# Altium integrated library TI_Logic_Flip-Flop,Latch,Register.IntLib: 2598 symbols (part 89 of 122)
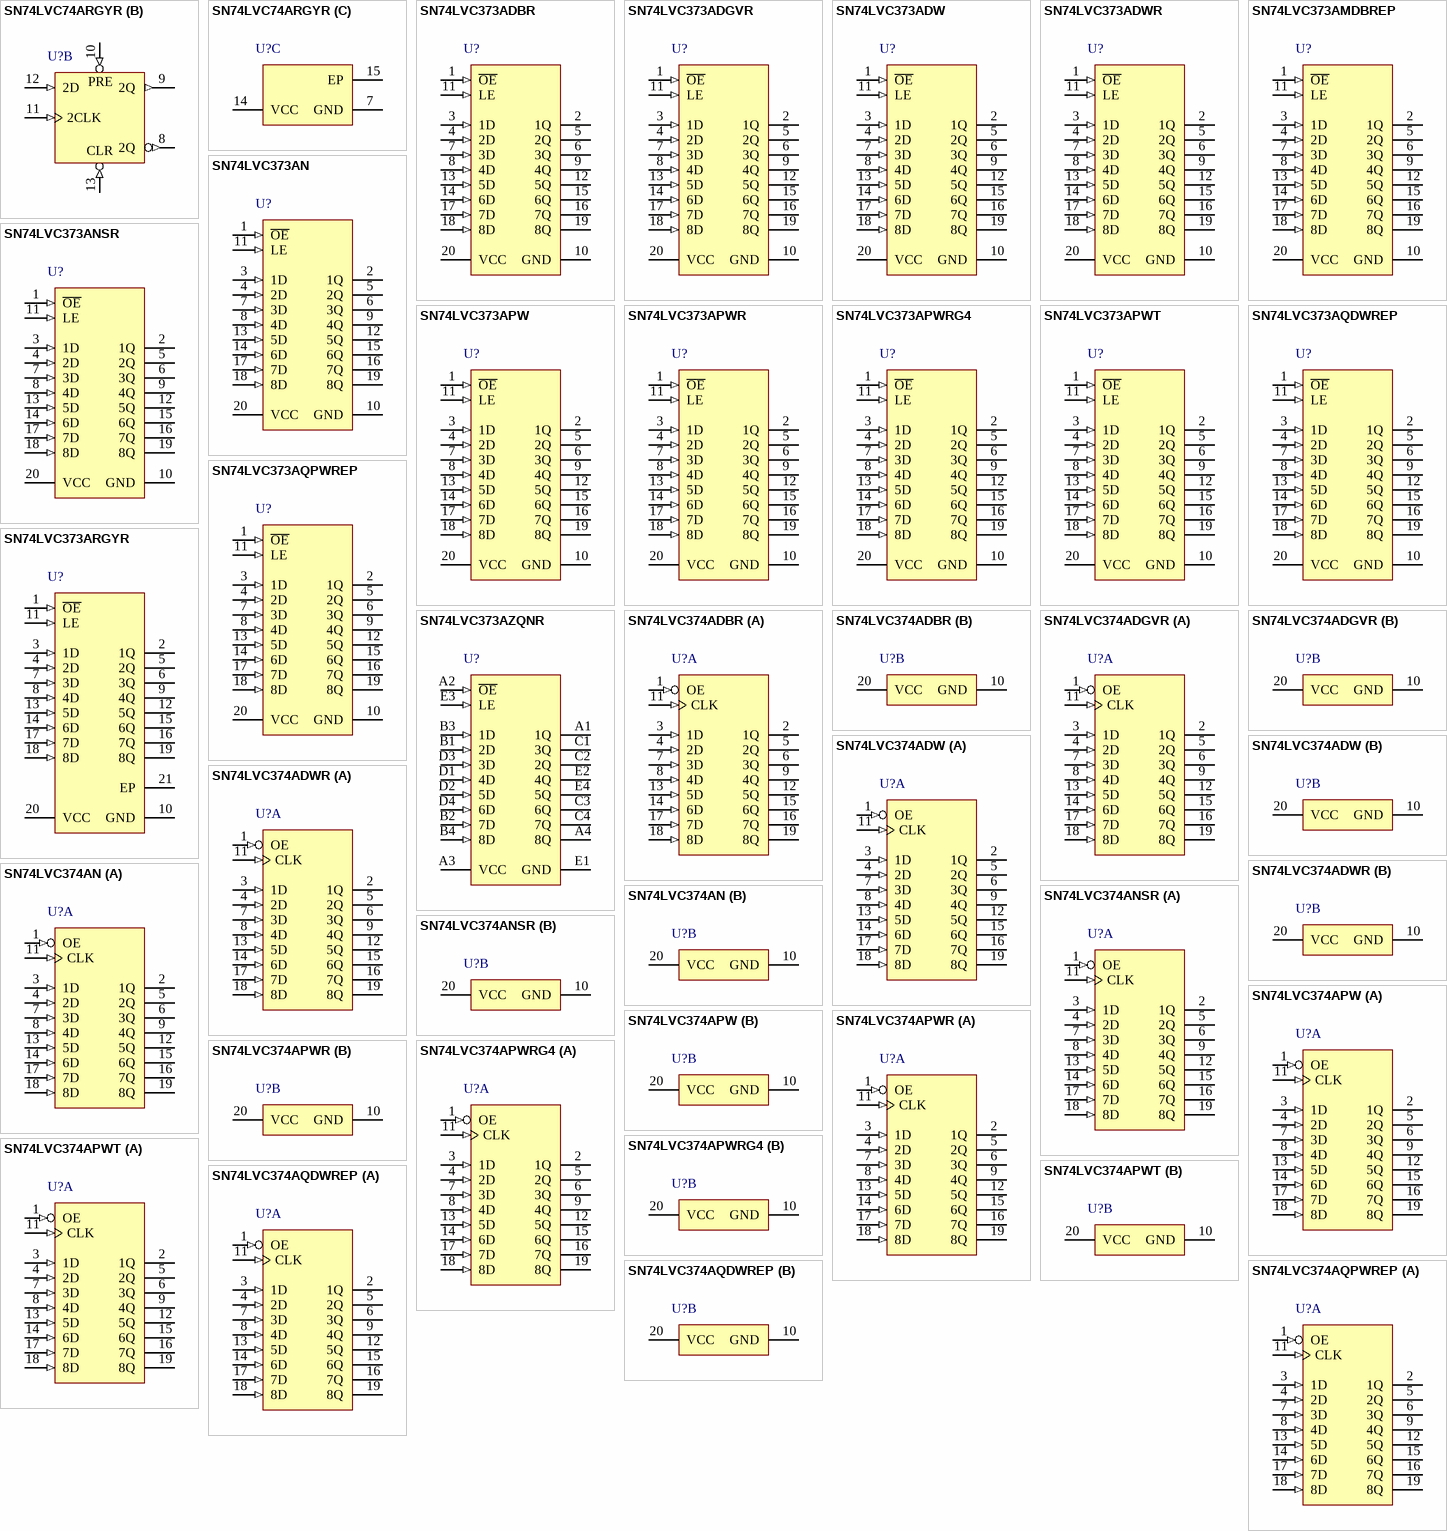
[diagram p227: symbols SN74LVC74ARGYR to SN74LVC374AQPWREP]

## SN74LVC374ANSR
designator U?
Octal Edge-Triggered D-Type Flip-Flops With 3-State Outputs, NS0020A, LARGE T&R; Generic Part Number: SN74LVC374A; Manufacturer: Texas Instruments; PartNumber: SN74LVC374ANSR; VCC(Min)(V): 1.65; VCC(Max)(V): 3.6; Output Type: CMOS; ICC @ Nom Voltage(Max)(mA): 0.01; Input Type: TTL,CMOS; Bits(#): 8; F @ Nom Voltage(Max)(Mhz): 100; Rating: Catalog; Technology Family: LVC; Voltage(Nom)(V): 1.8,2.5,2.7,3.3; Schmitt Trigger: No; Output Drive (IOL/IOH)(Max)(mA): 24/-24; Output Logic: Non-inverted; 3-State Output: Yes; tpd @ Nom Voltage(Max)(ns): 21.9,10.8,8.1,7; DatasheetVersion: SCAS296O; PackageReference: NS0020A; Supplier 1: Digi-Key; Supplier Part Number 1: 296-31916-2-ND; Supplier 2: Digi-Key; Supplier Part Number 2: 296-31916-1-ND; Supplier 3: Digi-Key; Supplier Part Number 3: 296-31916-6-ND; Supplier 4: Farnell; Supplier Part Number 4: 1236388; Supplier 5: Farnell; Supplier Part Number 5: 1236388RL; Supplier 6: Mouser; Supplier Part Number 6: 595-SN74LVC374ANSR; Operating Temperature Range(C): -40 to 85; ComponentLink1Description: Manufacturer URL; ComponentLink1URL: http://www.ti.com/; ComponentLink2Description: Datasheet; ComponentLink2URL: http://www.ti.com/lit/ds/symlink/sn74lvc374a.pdf; ComponentLink3Description: Package Specification; ComponentLink3URL: http://www.ti.com/lit/ml/msop002a/msop002a.pdf
footprint NS0020A_N (SOIC,20-Leads,Body 12.9x5.6mm,Pitch 1.27mm,IPC Medium Density)
footprint NS0020A_M (SOIC,20-Leads,Body 12.9x5.6mm,Pitch 1.27mm,IPC Low Density)
footprint NS0020A_L (SOIC,20-Leads,Body 12.9x5.6mm,Pitch 1.27mm,IPC High Density)
part A pins: 1 OE (in), 2 1Q (hiz), 3 1D (in), 4 2D (in), 5 2Q (hiz), 6 3Q (hiz), 7 3D (in), 8 4D (in), 9 4Q (hiz), 11 CLK (in), 12 5Q (hiz), 13 5D (in), 14 6D (in), 15 6Q (hiz), 16 7Q (hiz), 17 7D (in), 18 8D (in), 19 8Q (hiz)
part B pins: 10 GND (power), 20 VCC (power)

## SN74LVC374APW
designator U?
Octal Edge-Triggered D-Type Flip-Flops With 3-State Outputs, PW0020A, TUBE; Generic Part Number: SN74LVC374A; Manufacturer: Texas Instruments; PartNumber: SN74LVC374APW; VCC(Min)(V): 1.65; VCC(Max)(V): 3.6; Output Type: CMOS; ICC @ Nom Voltage(Max)(mA): 0.01; Input Type: TTL,CMOS; Bits(#): 8; F @ Nom Voltage(Max)(Mhz): 100; Rating: Catalog; Technology Family: LVC; Voltage(Nom)(V): 1.8,2.5,2.7,3.3; Schmitt Trigger: No; Output Drive (IOL/IOH)(Max)(mA): 24/-24; Output Logic: Non-inverted; 3-State Output: Yes; tpd @ Nom Voltage(Max)(ns): 21.9,10.8,8.1,7; DatasheetVersion: SCAS296O; PackageReference: PW0020A; Supplier 1: Digi-Key; Supplier Part Number 1: 296-26627-5-ND; Supplier 2: Farnell; Supplier Part Number 2: 1236389; Supplier 3: Newark; Supplier Part Number 3: 02H5437; Operating Temperature Range(C): -40 to 85; Code_JEDEC: MO-153; ComponentLink1Description: Manufacturer URL; ComponentLink1URL: http://www.ti.com/; ComponentLink2Description: Datasheet; ComponentLink2URL: http://www.ti.com/lit/ds/symlink/sn74lvc374a.pdf; ComponentLink3Description: Package Specification; ComponentLink3URL: http://www.ti.com/lit/ml/mpds362/mpds362.pdf
footprint PW0020A_N (SOP, 20-Leads, Body 6.6x4.5mm, Pitch 0.65mm, IPC Medium Density)
footprint PW0020A_M (SOP, 20-Leads, Body 6.6x4.5mm, Pitch 0.65mm, IPC Low Density)
footprint PW0020A_L (SOP, 20-Leads, Body 6.6x4.5mm, Pitch 0.65mm, IPC High Density)
part A pins: 1 OE (in), 2 1Q (hiz), 3 1D (in), 4 2D (in), 5 2Q (hiz), 6 3Q (hiz), 7 3D (in), 8 4D (in), 9 4Q (hiz), 11 CLK (in), 12 5Q (hiz), 13 5D (in), 14 6D (in), 15 6Q (hiz), 16 7Q (hiz), 17 7D (in), 18 8D (in), 19 8Q (hiz)
part B pins: 10 GND (power), 20 VCC (power)

## SN74LVC374APWR
designator U?
Octal Edge-Triggered D-Type Flip-Flops With 3-State Outputs, PW0020A, LARGE T&R; Generic Part Number: SN74LVC374A; Manufacturer: Texas Instruments; PartNumber: SN74LVC374APWR; VCC(Min)(V): 1.65; VCC(Max)(V): 3.6; Output Type: CMOS; ICC @ Nom Voltage(Max)(mA): 0.01; Input Type: TTL,CMOS; Bits(#): 8; F @ Nom Voltage(Max)(Mhz): 100; Rating: Catalog; Technology Family: LVC; Voltage(Nom)(V): 1.8,2.5,2.7,3.3; Schmitt Trigger: No; Output Drive (IOL/IOH)(Max)(mA): 24/-24; Output Logic: Non-inverted; 3-State Output: Yes; tpd @ Nom Voltage(Max)(ns): 21.9,10.8,8.1,7; DatasheetVersion: SCAS296O; PackageReference: PW0020A; Supplier 1: Digi-Key; Supplier Part Number 1: 296-1238-2-ND; Supplier 2: Digi-Key; Supplier Part Number 2: 296-1238-1-ND; Supplier 3: Digi-Key; Supplier Part Number 3: 296-1238-6-ND; Supplier 4: Farnell; Supplier Part Number 4: 2437256; Supplier 5: Newark; Supplier Part Number 5: 94T5068; Supplier 6: Newark; Supplier Part Number 6: 76C4288; Supplier 7: Mouser; Supplier Part Number 7: 595-SN74LVC374APWR; Operating Temperature Range(C): -40 to 85; Code_JEDEC: MO-153; ComponentLink1Description: Manufacturer URL; ComponentLink1URL: http://www.ti.com/; ComponentLink2Description: Datasheet; ComponentLink2URL: http://www.ti.com/lit/ds/symlink/sn74lvc374a.pdf; ComponentLink3Description: Package Specification; ComponentLink3URL: http://www.ti.com/lit/ml/mpds362/mpds362.pdf
footprint PW0020A_N (SOP, 20-Leads, Body 6.6x4.5mm, Pitch 0.65mm, IPC Medium Density)
footprint PW0020A_M (SOP, 20-Leads, Body 6.6x4.5mm, Pitch 0.65mm, IPC Low Density)
footprint PW0020A_L (SOP, 20-Leads, Body 6.6x4.5mm, Pitch 0.65mm, IPC High Density)
part A pins: 1 OE (in), 2 1Q (hiz), 3 1D (in), 4 2D (in), 5 2Q (hiz), 6 3Q (hiz), 7 3D (in), 8 4D (in), 9 4Q (hiz), 11 CLK (in), 12 5Q (hiz), 13 5D (in), 14 6D (in), 15 6Q (hiz), 16 7Q (hiz), 17 7D (in), 18 8D (in), 19 8Q (hiz)
part B pins: 10 GND (power), 20 VCC (power)

## SN74LVC374APWRG4
designator U?
Octal Edge-Triggered D-Type Flip-Flops With 3-State Outputs, PW0020A, LARGE T&R; Generic Part Number: SN74LVC374A; Manufacturer: Texas Instruments; PartNumber: SN74LVC374APWRG4; VCC(Min)(V): 1.65; VCC(Max)(V): 3.6; Output Type: CMOS; ICC @ Nom Voltage(Max)(mA): 0.01; Input Type: TTL,CMOS; Bits(#): 8; F @ Nom Voltage(Max)(Mhz): 100; Rating: Catalog; Technology Family: LVC; Voltage(Nom)(V): 1.8,2.5,2.7,3.3; Schmitt Trigger: No; Output Drive (IOL/IOH)(Max)(mA): 24/-24; Output Logic: Non-inverted; 3-State Output: Yes; tpd @ Nom Voltage(Max)(ns): 21.9,10.8,8.1,7; DatasheetVersion: SCAS296O; PackageReference: PW0020A; Supplier 1: Digi-Key; Supplier Part Number 1: SN74LVC374APWRG4-ND; Supplier 2: Newark; Supplier Part Number 2: 40K9291; Supplier 3: Mouser; Supplier Part Number 3: 595-SN74LVC374APWRG4; Operating Temperature Range(C): -40 to 85; Code_JEDEC: MO-153; ComponentLink1Description: Manufacturer URL; ComponentLink1URL: http://www.ti.com/; ComponentLink2Description: Datasheet; ComponentLink2URL: http://www.ti.com/lit/ds/symlink/sn74lvc374a.pdf; ComponentLink3Description: Package Specification; ComponentLink3URL: http://www.ti.com/lit/ml/mpds362/mpds362.pdf
footprint PW0020A_N (SOP, 20-Leads, Body 6.6x4.5mm, Pitch 0.65mm, IPC Medium Density)
footprint PW0020A_M (SOP, 20-Leads, Body 6.6x4.5mm, Pitch 0.65mm, IPC Low Density)
footprint PW0020A_L (SOP, 20-Leads, Body 6.6x4.5mm, Pitch 0.65mm, IPC High Density)
part A pins: 1 OE (in), 2 1Q (hiz), 3 1D (in), 4 2D (in), 5 2Q (hiz), 6 3Q (hiz), 7 3D (in), 8 4D (in), 9 4Q (hiz), 11 CLK (in), 12 5Q (hiz), 13 5D (in), 14 6D (in), 15 6Q (hiz), 16 7Q (hiz), 17 7D (in), 18 8D (in), 19 8Q (hiz)
part B pins: 10 GND (power), 20 VCC (power)

## SN74LVC374APWT
designator U?
Octal Edge-Triggered D-Type Flip-Flops With 3-State Outputs, PW0020A, SMALL T&R; Generic Part Number: SN74LVC374A; Manufacturer: Texas Instruments; PartNumber: SN74LVC374APWT; VCC(Min)(V): 1.65; VCC(Max)(V): 3.6; Output Type: CMOS; ICC @ Nom Voltage(Max)(mA): 0.01; Input Type: TTL,CMOS; Bits(#): 8; F @ Nom Voltage(Max)(Mhz): 100; Rating: Catalog; Technology Family: LVC; Voltage(Nom)(V): 1.8,2.5,2.7,3.3; Schmitt Trigger: No; Output Drive (IOL/IOH)(Max)(mA): 24/-24; Output Logic: Non-inverted; 3-State Output: Yes; tpd @ Nom Voltage(Max)(ns): 21.9,10.8,8.1,7; DatasheetVersion: SCAS296O; PackageReference: PW0020A; Supplier 1: Digi-Key; Supplier Part Number 1: 296-28674-2-ND; Supplier 2: Digi-Key; Supplier Part Number 2: 296-28674-1-ND; Supplier 3: Digi-Key; Supplier Part Number 3: 296-28674-6-ND; Supplier 4: Farnell; Supplier Part Number 4: 1741132; Operating Temperature Range(C): -40 to 85; Code_JEDEC: MO-153; ComponentLink1Description: Manufacturer URL; ComponentLink1URL: http://www.ti.com/; ComponentLink2Description: Datasheet; ComponentLink2URL: http://www.ti.com/lit/ds/symlink/sn74lvc374a.pdf; ComponentLink3Description: Package Specification; ComponentLink3URL: http://www.ti.com/lit/ml/mpds362/mpds362.pdf
footprint PW0020A_N (SOP, 20-Leads, Body 6.6x4.5mm, Pitch 0.65mm, IPC Medium Density)
footprint PW0020A_M (SOP, 20-Leads, Body 6.6x4.5mm, Pitch 0.65mm, IPC Low Density)
footprint PW0020A_L (SOP, 20-Leads, Body 6.6x4.5mm, Pitch 0.65mm, IPC High Density)
part A pins: 1 OE (in), 2 1Q (hiz), 3 1D (in), 4 2D (in), 5 2Q (hiz), 6 3Q (hiz), 7 3D (in), 8 4D (in), 9 4Q (hiz), 11 CLK (in), 12 5Q (hiz), 13 5D (in), 14 6D (in), 15 6Q (hiz), 16 7Q (hiz), 17 7D (in), 18 8D (in), 19 8Q (hiz)
part B pins: 10 GND (power), 20 VCC (power)

## SN74LVC374AQDWREP
designator U?
Enhanced Product Octal Edge-Triggered D-Type Flip-Flops With 3-State Outputs, DW0020A, LARGE T&R; Generic Part Number: SN74LVC374A-EP; Manufacturer: Texas Instruments; PartNumber: SN74LVC374AQDWREP; VCC(Min)(V): 2; VCC(Max)(V): 3.6; Output Type: CMOS; ICC @ Nom Voltage(Max)(mA): 0.01; Input Type: TTL,CMOS; Bits(#): 8; F @ Nom Voltage(Max)(Mhz): 100; Rating: HiRel Enhanced Product; Technology Family: LVC; Voltage(Nom)(V): 2.7,3.3; Schmitt Trigger: No; Output Drive (IOL/IOH)(Max)(mA): 24/-24; Output Logic: Non-inverted; 3-State Output: Yes; tpd @ Nom Voltage(Max)(ns): 9.5,8.5; DatasheetVersion: SCAS746A; PackageReference: DW0020A; Supplier 1: Digi-Key; Supplier Part Number 1: 296-22367-2-ND; Supplier 2: Digi-Key; Supplier Part Number 2: 296-22367-1-ND; Supplier 3: Digi-Key; Supplier Part Number 3: 296-22367-6-ND; Supplier 4: Newark; Supplier Part Number 4: 46M0680; Operating Temperature Range(C): -40 to 125; Code_JEDEC: MS-013; ComponentLink1Description: Manufacturer URL; ComponentLink1URL: http://www.ti.com/; ComponentLink2Description: Datasheet; ComponentLink2URL: http://www.ti.com/lit/ds/symlink/sn74lvc374a-ep.pdf; ComponentLink3Description: Package Specification; ComponentLink3URL: http://www.ti.com/lit/ml/mpds173a/mpds173a.pdf
footprint DW0020A_N (SOIC, 20-Leads, Body 13x7.6mm, Pitch 1.27mm, IPC Medium Density)
footprint DW0020A_M (SOIC, 20-Leads, Body 13x7.6mm, Pitch 1.27mm, IPC Low Density)
footprint DW0020A_L (SOIC, 20-Leads, Body 13x7.6mm, Pitch 1.27mm, IPC High Density)
part A pins: 1 OE (in), 2 1Q (hiz), 3 1D (in), 4 2D (in), 5 2Q (hiz), 6 3Q (hiz), 7 3D (in), 8 4D (in), 9 4Q (hiz), 11 CLK (in), 12 5Q (hiz), 13 5D (in), 14 6D (in), 15 6Q (hiz), 16 7Q (hiz), 17 7D (in), 18 8D (in), 19 8Q (hiz)
part B pins: 10 GND (power), 20 VCC (power)

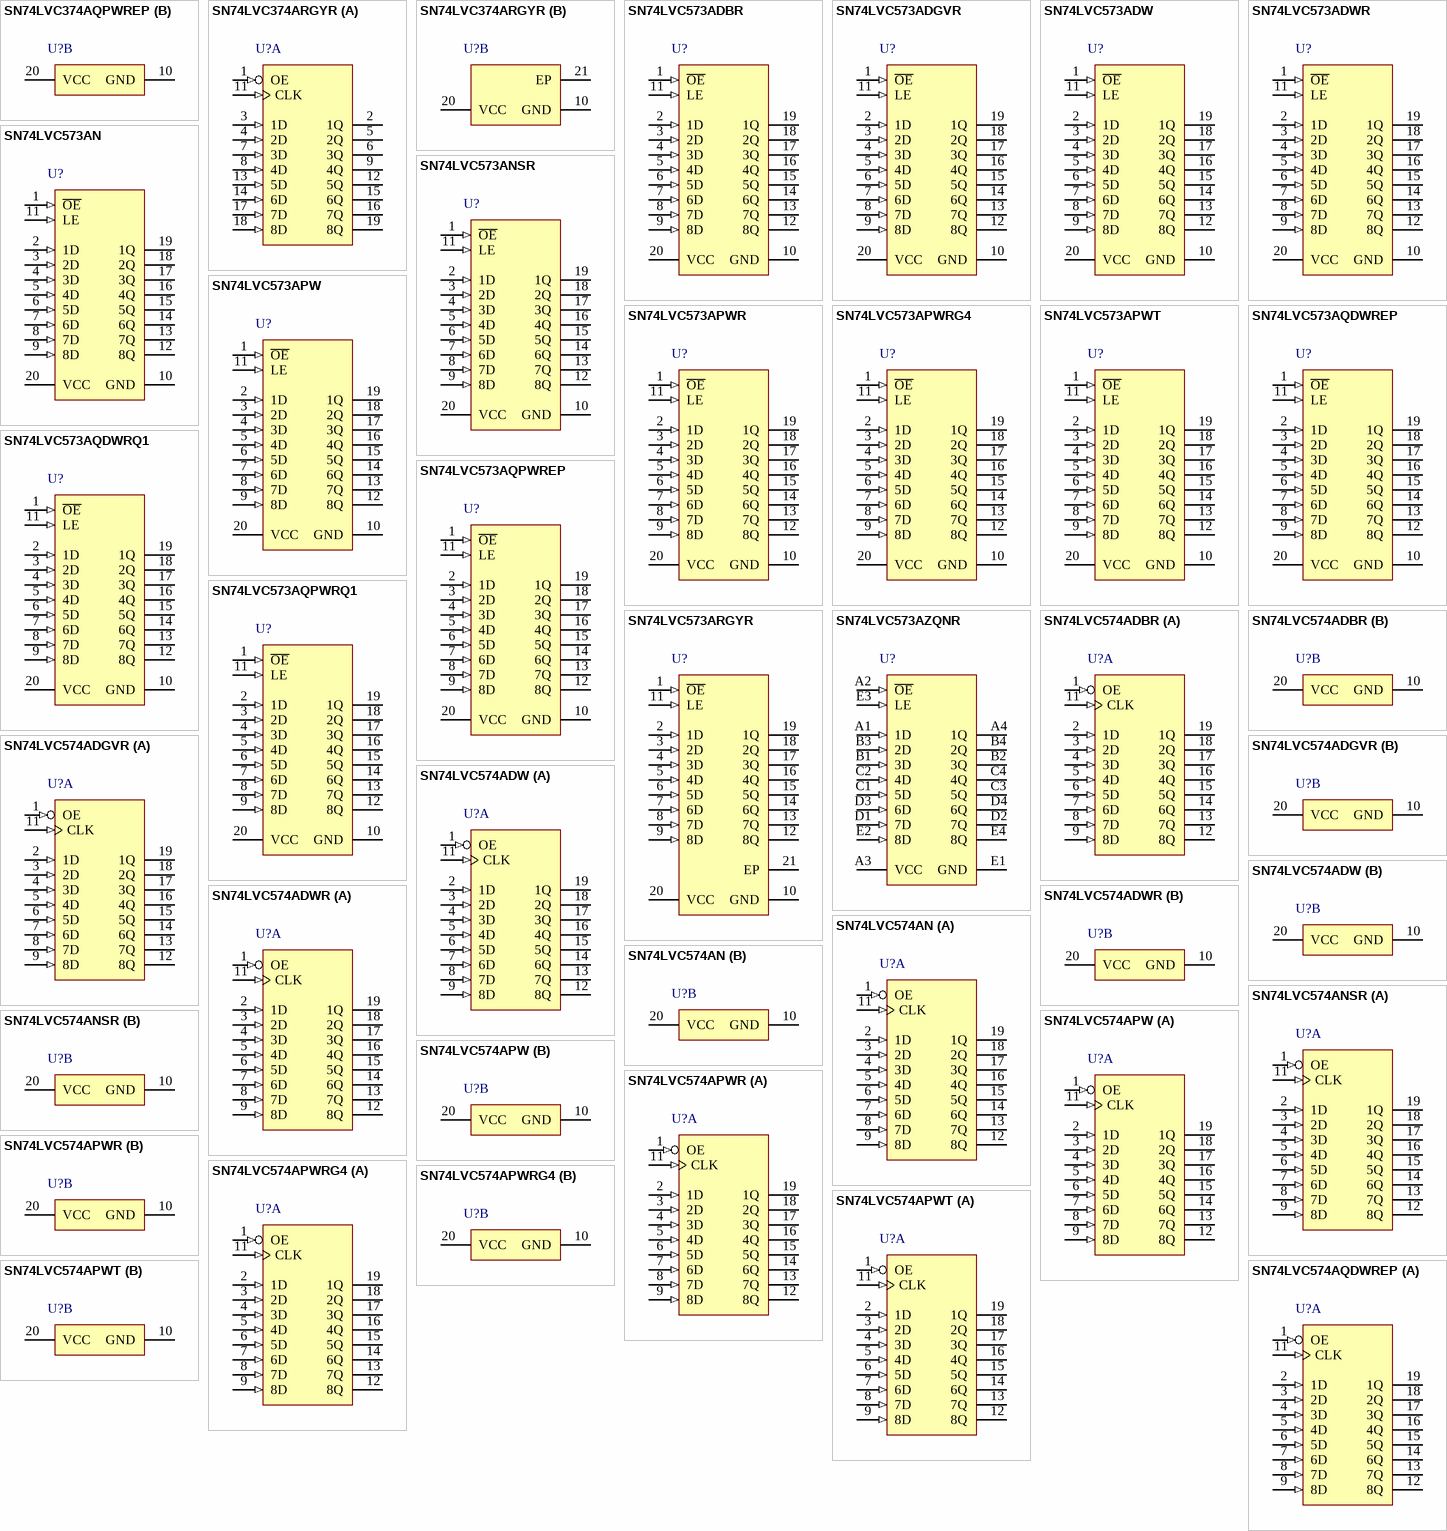
[diagram p105: symbols SN74LVC374AQPWREP to SN74LVC574AQDWREP]

## SN74LVC374AQPWREP
designator U?
Enhanced Product Octal Edge-Triggered D-Type Flip-Flops With 3-State Outputs, PW0020A, LARGE T&R; Generic Part Number: SN74LVC374A-EP; Manufacturer: Texas Instruments; PartNumber: SN74LVC374AQPWREP; VCC(Min)(V): 2; VCC(Max)(V): 3.6; Output Type: CMOS; ICC @ Nom Voltage(Max)(mA): 0.01; Input Type: TTL,CMOS; Bits(#): 8; F @ Nom Voltage(Max)(Mhz): 100; Rating: HiRel Enhanced Product; Technology Family: LVC; Voltage(Nom)(V): 2.7,3.3; Schmitt Trigger: No; Output Drive (IOL/IOH)(Max)(mA): 24/-24; Output Logic: Non-inverted; 3-State Output: Yes; tpd @ Nom Voltage(Max)(ns): 9.5,8.5; DatasheetVersion: SCAS746A; PackageReference: PW0020A; Supplier 1: Digi-Key; Supplier Part Number 1: 296-22368-2-ND; Supplier 2: Digi-Key; Supplier Part Number 2: 296-22368-1-ND; Supplier 3: Digi-Key; Supplier Part Number 3: 296-22368-6-ND; Operating Temperature Range(C): -40 to 125; Code_JEDEC: MO-153; ComponentLink1Description: Manufacturer URL; ComponentLink1URL: http://www.ti.com/; ComponentLink2Description: Datasheet; ComponentLink2URL: http://www.ti.com/lit/ds/symlink/sn74lvc374a-ep.pdf; ComponentLink3Description: Package Specification; ComponentLink3URL: http://www.ti.com/lit/ml/mpds362/mpds362.pdf
footprint PW0020A_N (SOP, 20-Leads, Body 6.6x4.5mm, Pitch 0.65mm, IPC Medium Density)
footprint PW0020A_M (SOP, 20-Leads, Body 6.6x4.5mm, Pitch 0.65mm, IPC Low Density)
footprint PW0020A_L (SOP, 20-Leads, Body 6.6x4.5mm, Pitch 0.65mm, IPC High Density)
part A pins: 1 OE (in), 2 1Q (hiz), 3 1D (in), 4 2D (in), 5 2Q (hiz), 6 3Q (hiz), 7 3D (in), 8 4D (in), 9 4Q (hiz), 11 CLK (in), 12 5Q (hiz), 13 5D (in), 14 6D (in), 15 6Q (hiz), 16 7Q (hiz), 17 7D (in), 18 8D (in), 19 8Q (hiz)
part B pins: 10 GND (power), 20 VCC (power)

## SN74LVC374ARGYR
designator U?
Octal Edge-Triggered D-Type Flip-Flops With 3-State Outputs, RGY0020A, LARGE T&R; Generic Part Number: SN74LVC374A; Manufacturer: Texas Instruments; PartNumber: SN74LVC374ARGYR; VCC(Min)(V): 1.65; VCC(Max)(V): 3.6; Output Type: CMOS; ICC @ Nom Voltage(Max)(mA): 0.01; Input Type: TTL,CMOS; Bits(#): 8; F @ Nom Voltage(Max)(Mhz): 100; Rating: Catalog; Technology Family: LVC; Voltage(Nom)(V): 1.8,2.5,2.7,3.3; Schmitt Trigger: No; Output Drive (IOL/IOH)(Max)(mA): 24/-24; Output Logic: Non-inverted; 3-State Output: Yes; tpd @ Nom Voltage(Max)(ns): 21.9,10.8,8.1,7; DatasheetVersion: SCAS296O; PackageReference: RGY0020A; Supplier 1: Digi-Key; Supplier Part Number 1: 296-14910-2-ND; Supplier 2: Digi-Key; Supplier Part Number 2: 296-14910-1-ND; Supplier 3: Digi-Key; Supplier Part Number 3: 296-14910-6-ND; Supplier 4: Newark; Supplier Part Number 4: 22H0417; Operating Temperature Range(C): -40 to 85; Code_JEDEC: MO-241; ComponentLink1Description: Manufacturer URL; ComponentLink1URL: http://www.ti.com/; ComponentLink2Description: Datasheet; ComponentLink2URL: http://www.ti.com/lit/ds/symlink/sn74lvc374a.pdf; ComponentLink3Description: Package Specification; ComponentLink3URL: http://www.ti.com/lit/ml/mpqf116g/mpqf116g.pdf
footprint RGY0020A_V (QFN, 20-Leads, Body 4.5x3.5mm, Thermal Pad 3.05x2.05mm, TI Recommend)
part A pins: 1 OE (in) "Enable pin", 2 1Q (hiz) "Output 1", 3 1D (in) "Input 1", 4 2D (in) "Input 2", 5 2Q (hiz) "Output 2", 6 3Q (hiz) "Output 3", 7 3D (in) "Input 3", 8 4D (in) "Input 4", 9 4Q (hiz) "Output 4", 11 CLK (in) "Clock pin", 12 5Q (hiz) "Output 5", 13 5D (in) "Input 5", 14 6D (in) "Input 6", 15 6Q (hiz) "Output 6", 16 7Q (hiz) "Output 7", 17 7D (in) "Input 7", 18 8D (in) "Input 8", 19 8Q (hiz) "Output 8"
part B pins: 10 GND (power) "Ground pin", 20 VCC (power) "Power pin", 21 EP

## SN74LVC573ADBR
designator U?
Octal Transparent D-Type Latches With 3-State Outputs, DB0020A, LARGE T&R; Generic Part Number: SN74LVC573A; Manufacturer: Texas Instruments; PartNumber: SN74LVC573ADBR; VCC(Min)(V): 1.65; VCC(Max)(V): 3.6; Output Type: CMOS; Logic: True; Static Current: 0.01; Input Type: CMOS,TTL; Bits(#): 8; F @ Nom Voltage(Max)(Mhz): 100; Rating: Catalog; Technology Family: LVC; Voltage(Nom)(V): 1.8,2.5,2.7,3.3; Schmitt Trigger: No; Output Drive (IOL/IOH)(Max)(mA): 24/-24; Output Logic: Non-inverted; 3-State Output: Yes; tpd @ Nom Voltage(Max)(ns): 19.1,9.6,7.7,6.9; DatasheetVersion: SCAS300S; PackageReference: DB0020A; Supplier 1: Digi-Key; Supplier Part Number 1: 296-8525-2-ND; Supplier 2: Digi-Key; Supplier Part Number 2: 296-8525-1-ND; Supplier 3: Digi-Key; Supplier Part Number 3: 296-8525-6-ND; Supplier 4: Farnell; Supplier Part Number 4: 2407134; Supplier 5: Farnell; Supplier Part Number 5: 2407134RL; Supplier 6: Newark; Supplier Part Number 6: 83X7772; Supplier 7: Newark; Supplier Part Number 7: 76C4306; Supplier 8: Mouser; Supplier Part Number 8: 595-SN74LVC573ADBR; ICC @ Nom Voltage(Max)(mA): 0.01; Operating Temperature Range(C): -40 to 125,-40 to 85; Code_JEDEC: MO-150; ComponentLink1Description: Manufacturer URL; ComponentLink1URL: http://www.ti.com/; ComponentLink2Description: Datasheet; ComponentLink2URL: http://www.ti.com/lit/ds/symlink/sn74lvc573a.pdf; ComponentLink3Description: Package Specification; ComponentLink3URL: http://www.ti.com/lit/ml/mpds508/mpds508.pdf
footprint DB0020A_N (SOP, 20-Leads, Body 5.6x7.5mm, Pitch 0.65mm, IPC Medium Density)
footprint DB0020A_M (SOP, 20-Leads, Body 5.6x7.5mm, Pitch 0.65mm, IPC Low Density)
footprint DB0020A_L (SOP, 20-Leads, Body 5.6x7.5mm, Pitch 0.65mm, IPC High Density)
pins: 1 ~{OE} (in), 2 1D (in), 3 2D (in), 4 3D (in), 5 4D (in), 6 5D (in), 7 6D (in), 8 7D (in), 9 8D (in), 10 GND (power), 11 LE (in), 12 8Q (hiz), 13 7Q (hiz), 14 6Q (hiz), 15 5Q (hiz), 16 4Q (hiz), 17 3Q (hiz), 18 2Q (hiz), 19 1Q (hiz), 20 VCC (power)

## SN74LVC573ADGVR
designator U?
Octal Transparent D-Type Latches With 3-State Outputs, DGV0020A, LARGE T&R; Generic Part Number: SN74LVC573A; Manufacturer: Texas Instruments; PartNumber: SN74LVC573ADGVR; VCC(Min)(V): 1.65; VCC(Max)(V): 3.6; Output Type: CMOS; Logic: True; Static Current: 0.01; Input Type: CMOS,TTL; Bits(#): 8; F @ Nom Voltage(Max)(Mhz): 100; Rating: Catalog; Technology Family: LVC; Voltage(Nom)(V): 1.8,2.5,2.7,3.3; Schmitt Trigger: No; Output Drive (IOL/IOH)(Max)(mA): 24/-24; Output Logic: Non-inverted; 3-State Output: Yes; tpd @ Nom Voltage(Max)(ns): 19.1,9.6,7.7,6.9; DatasheetVersion: SCAS300S; PackageReference: DGV0020A; Supplier 1: Digi-Key; Supplier Part Number 1: 296-8526-2-ND; Supplier 2: Digi-Key; Supplier Part Number 2: 296-8526-1-ND; Supplier 3: Digi-Key; Supplier Part Number 3: 296-8526-6-ND; Supplier 4: Farnell; Supplier Part Number 4: 1236396; Supplier 5: Farnell; Supplier Part Number 5: 1236396RL; Supplier 6: Mouser; Supplier Part Number 6: 595-SN74LVC573ADGVR; ICC @ Nom Voltage(Max)(mA): 0.01; Operating Temperature Range(C): -40 to 125,-40 to 85; Code_JEDEC: MO-194; ComponentLink1Description: Manufacturer URL; ComponentLink1URL: http://www.ti.com/; ComponentLink2Description: Datasheet; ComponentLink2URL: http://www.ti.com/lit/ds/symlink/sn74lvc573a.pdf; ComponentLink3Description: Package Specification; ComponentLink3URL: http://www.ti.com/lit/ml/mpds006c/mpds006c.pdf
footprint DGV0020A_N (SOP, 20-Leads, Body 4.5x5.1mm, Pitch 0.4mm, IPC Medium Density)
footprint DGV0020A_M (SOP, 20-Leads, Body 4.5x5.1mm, Pitch 0.4mm, IPC Low Density)
footprint DGV0020A_L (SOP, 20-Leads, Body 4.5x5.1mm, Pitch 0.4mm, IPC High Density)
pins: 1 ~{OE} (in), 2 1D (in), 3 2D (in), 4 3D (in), 5 4D (in), 6 5D (in), 7 6D (in), 8 7D (in), 9 8D (in), 10 GND (power), 11 LE (in), 12 8Q (hiz), 13 7Q (hiz), 14 6Q (hiz), 15 5Q (hiz), 16 4Q (hiz), 17 3Q (hiz), 18 2Q (hiz), 19 1Q (hiz), 20 VCC (power)

## SN74LVC573ADW
designator U?
Octal Transparent D-Type Latches With 3-State Outputs, DW0020A, TUBE; Generic Part Number: SN74LVC573A; Manufacturer: Texas Instruments; PartNumber: SN74LVC573ADW; VCC(Min)(V): 1.65; VCC(Max)(V): 3.6; Output Type: CMOS; Logic: True; Static Current: 0.01; Input Type: CMOS,TTL; Bits(#): 8; F @ Nom Voltage(Max)(Mhz): 100; Rating: Catalog; Technology Family: LVC; Voltage(Nom)(V): 1.8,2.5,2.7,3.3; Schmitt Trigger: No; Output Drive (IOL/IOH)(Max)(mA): 24/-24; Output Logic: Non-inverted; 3-State Output: Yes; tpd @ Nom Voltage(Max)(ns): 19.1,9.6,7.7,6.9; DatasheetVersion: SCAS300S; PackageReference: DW0020A; Supplier 1: Digi-Key; Supplier Part Number 1: 296-8527-5-ND; Supplier 2: Farnell; Supplier Part Number 2: 1236397; Supplier 3: Newark; Supplier Part Number 3: 35K0822; Supplier 4: Mouser; Supplier Part Number 4: 595-SN74LVC573ADW; ICC @ Nom Voltage(Max)(mA): 0.01; Operating Temperature Range(C): -40 to 125,-40 to 85; Code_JEDEC: MS-013; ComponentLink1Description: Manufacturer URL; ComponentLink1URL: http://www.ti.com/; ComponentLink2Description: Datasheet; ComponentLink2URL: http://www.ti.com/lit/ds/symlink/sn74lvc573a.pdf; ComponentLink3Description: Package Specification; ComponentLink3URL: http://www.ti.com/lit/ml/mpds173a/mpds173a.pdf
footprint DW0020A_N (SOIC, 20-Leads, Body 13x7.6mm, Pitch 1.27mm, IPC Medium Density)
footprint DW0020A_M (SOIC, 20-Leads, Body 13x7.6mm, Pitch 1.27mm, IPC Low Density)
footprint DW0020A_L (SOIC, 20-Leads, Body 13x7.6mm, Pitch 1.27mm, IPC High Density)
pins: 1 ~{OE} (in), 2 1D (in), 3 2D (in), 4 3D (in), 5 4D (in), 6 5D (in), 7 6D (in), 8 7D (in), 9 8D (in), 10 GND (power), 11 LE (in), 12 8Q (hiz), 13 7Q (hiz), 14 6Q (hiz), 15 5Q (hiz), 16 4Q (hiz), 17 3Q (hiz), 18 2Q (hiz), 19 1Q (hiz), 20 VCC (power)

## SN74LVC573ADWR
designator U?
Octal Transparent D-Type Latches With 3-State Outputs, DW0020A, LARGE T&R; Generic Part Number: SN74LVC573A; Manufacturer: Texas Instruments; PartNumber: SN74LVC573ADWR; VCC(Min)(V): 1.65; VCC(Max)(V): 3.6; Output Type: CMOS; Logic: True; Static Current: 0.01; Input Type: CMOS,TTL; Bits(#): 8; F @ Nom Voltage(Max)(Mhz): 100; Rating: Catalog; Technology Family: LVC; Voltage(Nom)(V): 1.8,2.5,2.7,3.3; Schmitt Trigger: No; Output Drive (IOL/IOH)(Max)(mA): 24/-24; Output Logic: Non-inverted; 3-State Output: Yes; tpd @ Nom Voltage(Max)(ns): 19.1,9.6,7.7,6.9; DatasheetVersion: SCAS300S; PackageReference: DW0020A; Supplier 1: Digi-Key; Supplier Part Number 1: 296-14913-2-ND; Supplier 2: Digi-Key; Supplier Part Number 2: 296-14913-1-ND; Supplier 3: Digi-Key; Supplier Part Number 3: 296-14913-6-ND; Supplier 4: Newark; Supplier Part Number 4: 76C4309; Supplier 5: Mouser; Supplier Part Number 5: 595-SN74LVC573ADWR; ICC @ Nom Voltage(Max)(mA): 0.01; Operating Temperature Range(C): -40 to 125,-40 to 85; Code_JEDEC: MS-013; ComponentLink1Description: Manufacturer URL; ComponentLink1URL: http://www.ti.com/; ComponentLink2Description: Datasheet; ComponentLink2URL: http://www.ti.com/lit/ds/symlink/sn74lvc573a.pdf; ComponentLink3Description: Package Specification; ComponentLink3URL: http://www.ti.com/lit/ml/mpds173a/mpds173a.pdf
footprint DW0020A_N (SOIC, 20-Leads, Body 13x7.6mm, Pitch 1.27mm, IPC Medium Density)
footprint DW0020A_M (SOIC, 20-Leads, Body 13x7.6mm, Pitch 1.27mm, IPC Low Density)
footprint DW0020A_L (SOIC, 20-Leads, Body 13x7.6mm, Pitch 1.27mm, IPC High Density)
pins: 1 ~{OE} (in), 2 1D (in), 3 2D (in), 4 3D (in), 5 4D (in), 6 5D (in), 7 6D (in), 8 7D (in), 9 8D (in), 10 GND (power), 11 LE (in), 12 8Q (hiz), 13 7Q (hiz), 14 6Q (hiz), 15 5Q (hiz), 16 4Q (hiz), 17 3Q (hiz), 18 2Q (hiz), 19 1Q (hiz), 20 VCC (power)

## SN74LVC573AN
designator U?
Octal Transparent D-Type Latches With 3-State Outputs, N0020A, TUBE; Generic Part Number: SN74LVC573A; Manufacturer: Texas Instruments; PartNumber: SN74LVC573AN; VCC(Min)(V): 1.65; VCC(Max)(V): 3.6; Output Type: CMOS; Logic: True; Static Current: 0.01; Input Type: CMOS,TTL; Bits(#): 8; F @ Nom Voltage(Max)(Mhz): 100; Rating: Catalog; Technology Family: LVC; Voltage(Nom)(V): 1.8,2.5,2.7,3.3; Schmitt Trigger: No; Output Drive (IOL/IOH)(Max)(mA): 24/-24; Output Logic: Non-inverted; 3-State Output: Yes; tpd @ Nom Voltage(Max)(ns): 19.1,9.6,7.7,6.9; DatasheetVersion: SCAS300S; PackageReference: N0020A; Supplier 1: Digi-Key; Supplier Part Number 1: 296-8528-5-ND; Supplier 2: Farnell; Supplier Part Number 2: 1750132; Supplier 3: Mouser; Supplier Part Number 3: 595-SN74LVC573AN; ICC @ Nom Voltage(Max)(mA): 0.01; Operating Temperature Range(C): -40 to 125,-40 to 85; Code_JEDEC: MS-001; ComponentLink1Description: Manufacturer URL; ComponentLink1URL: http://www.ti.com/; ComponentLink2Description: Datasheet; ComponentLink2URL: http://www.ti.com/lit/ds/symlink/sn74lvc573a.pdf; ComponentLink3Description: Package Specification; ComponentLink3URL: http://www.ti.com/lit/ml/mpdi002c/mpdi002c.pdf
footprint N0020A (DIP, 20-Leads, Body 26.9x6.6mm, Pitch 2.54mm)
pins: 1 ~{OE} (in), 2 1D (in), 3 2D (in), 4 3D (in), 5 4D (in), 6 5D (in), 7 6D (in), 8 7D (in), 9 8D (in), 10 GND (power), 11 LE (in), 12 8Q (hiz), 13 7Q (hiz), 14 6Q (hiz), 15 5Q (hiz), 16 4Q (hiz), 17 3Q (hiz), 18 2Q (hiz), 19 1Q (hiz), 20 VCC (power)

## SN74LVC573ANSR
designator U?
Octal Transparent D-Type Latches With 3-State Outputs, NS0020A, LARGE T&R; Generic Part Number: SN74LVC573A; Manufacturer: Texas Instruments; PartNumber: SN74LVC573ANSR; VCC(Min)(V): 1.65; VCC(Max)(V): 3.6; Output Type: CMOS; Logic: True; Static Current: 0.01; Input Type: CMOS,TTL; Bits(#): 8; F @ Nom Voltage(Max)(Mhz): 100; Rating: Catalog; Technology Family: LVC; Voltage(Nom)(V): 1.8,2.5,2.7,3.3; Schmitt Trigger: No; Output Drive (IOL/IOH)(Max)(mA): 24/-24; Output Logic: Non-inverted; 3-State Output: Yes; tpd @ Nom Voltage(Max)(ns): 19.1,9.6,7.7,6.9; DatasheetVersion: SCAS300S; PackageReference: NS0020A; Supplier 1: Digi-Key; Supplier Part Number 1: 296-29292-2-ND; Supplier 2: Digi-Key; Supplier Part Number 2: 296-29292-1-ND; Supplier 3: Digi-Key; Supplier Part Number 3: 296-29292-6-ND; Supplier 4: Farnell; Supplier Part Number 4: 1236399; Supplier 5: Farnell; Supplier Part Number 5: 1236399RL; Supplier 6: Newark; Supplier Part Number 6: 13M5319; Supplier 7: Newark; Supplier Part Number 7: 76C4312; Supplier 8: Mouser; Supplier Part Number 8: 595-SN74LVC573ANSR; ICC @ Nom Voltage(Max)(mA): 0.01; Operating Temperature Range(C): -40 to 125,-40 to 85; ComponentLink1Description: Manufacturer URL; ComponentLink1URL: http://www.ti.com/; ComponentLink2Description: Datasheet; ComponentLink2URL: http://www.ti.com/lit/ds/symlink/sn74lvc573a.pdf; ComponentLink3Description: Package Specification; ComponentLink3URL: http://www.ti.com/lit/ml/msop002a/msop002a.pdf
footprint NS0020A_N (SOIC,20-Leads,Body 12.9x5.6mm,Pitch 1.27mm,IPC Medium Density)
footprint NS0020A_M (SOIC,20-Leads,Body 12.9x5.6mm,Pitch 1.27mm,IPC Low Density)
footprint NS0020A_L (SOIC,20-Leads,Body 12.9x5.6mm,Pitch 1.27mm,IPC High Density)
pins: 1 ~{OE} (in), 2 1D (in), 3 2D (in), 4 3D (in), 5 4D (in), 6 5D (in), 7 6D (in), 8 7D (in), 9 8D (in), 10 GND (power), 11 LE (in), 12 8Q (hiz), 13 7Q (hiz), 14 6Q (hiz), 15 5Q (hiz), 16 4Q (hiz), 17 3Q (hiz), 18 2Q (hiz), 19 1Q (hiz), 20 VCC (power)

## SN74LVC573APW
designator U?
Octal Transparent D-Type Latches With 3-State Outputs, PW0020A, TUBE; Generic Part Number: SN74LVC573A; Manufacturer: Texas Instruments; PartNumber: SN74LVC573APW; VCC(Min)(V): 1.65; VCC(Max)(V): 3.6; Output Type: CMOS; Logic: True; Static Current: 0.01; Input Type: CMOS,TTL; Bits(#): 8; F @ Nom Voltage(Max)(Mhz): 100; Rating: Catalog; Technology Family: LVC; Voltage(Nom)(V): 1.8,2.5,2.7,3.3; Schmitt Trigger: No; Output Drive (IOL/IOH)(Max)(mA): 24/-24; Output Logic: Non-inverted; 3-State Output: Yes; tpd @ Nom Voltage(Max)(ns): 19.1,9.6,7.7,6.9; DatasheetVersion: SCAS300S; PackageReference: PW0020A; Supplier 1: Digi-Key; Supplier Part Number 1: 296-26629-5-ND; Supplier 2: Farnell; Supplier Part Number 2: 1236400; Supplier 3: Newark; Supplier Part Number 3: 02H5440; Supplier 4: Mouser; Supplier Part Number 4: 595-SN74LVC573APW; ICC @ Nom Voltage(Max)(mA): 0.01; Operating Temperature Range(C): -40 to 125,-40 to 85; Code_JEDEC: MO-153; ComponentLink1Description: Manufacturer URL; ComponentLink1URL: http://www.ti.com/; ComponentLink2Description: Datasheet; ComponentLink2URL: http://www.ti.com/lit/ds/symlink/sn74lvc573a.pdf; ComponentLink3Description: Package Specification; ComponentLink3URL: http://www.ti.com/lit/ml/mpds362/mpds362.pdf
footprint PW0020A_N (SOP, 20-Leads, Body 6.6x4.5mm, Pitch 0.65mm, IPC Medium Density)
footprint PW0020A_M (SOP, 20-Leads, Body 6.6x4.5mm, Pitch 0.65mm, IPC Low Density)
footprint PW0020A_L (SOP, 20-Leads, Body 6.6x4.5mm, Pitch 0.65mm, IPC High Density)
pins: 1 ~{OE} (in), 2 1D (in), 3 2D (in), 4 3D (in), 5 4D (in), 6 5D (in), 7 6D (in), 8 7D (in), 9 8D (in), 10 GND (power), 11 LE (in), 12 8Q (hiz), 13 7Q (hiz), 14 6Q (hiz), 15 5Q (hiz), 16 4Q (hiz), 17 3Q (hiz), 18 2Q (hiz), 19 1Q (hiz), 20 VCC (power)

## SN74LVC573APWR
designator U?
Octal Transparent D-Type Latches With 3-State Outputs, PW0020A, LARGE T&R; Generic Part Number: SN74LVC573A; Manufacturer: Texas Instruments; PartNumber: SN74LVC573APWR; VCC(Min)(V): 1.65; VCC(Max)(V): 3.6; Output Type: CMOS; Logic: True; Static Current: 0.01; Input Type: CMOS,TTL; Bits(#): 8; F @ Nom Voltage(Max)(Mhz): 100; Rating: Catalog; Technology Family: LVC; Voltage(Nom)(V): 1.8,2.5,2.7,3.3; Schmitt Trigger: No; Output Drive (IOL/IOH)(Max)(mA): 24/-24; Output Logic: Non-inverted; 3-State Output: Yes; tpd @ Nom Voltage(Max)(ns): 19.1,9.6,7.7,6.9; DatasheetVersion: SCAS300S; PackageReference: PW0020A; Supplier 1: Digi-Key; Supplier Part Number 1: 296-8529-2-ND; Supplier 2: Digi-Key; Supplier Part Number 2: 296-8529-1-ND; Supplier 3: Digi-Key; Supplier Part Number 3: 296-8529-6-ND; Supplier 4: Newark; Supplier Part Number 4: 76C4313; Supplier 5: Mouser; Supplier Part Number 5: 595-SN74LVC573APWR; ICC @ Nom Voltage(Max)(mA): 0.01; Operating Temperature Range(C): -40 to 125,-40 to 85; Code_JEDEC: MO-153; ComponentLink1Description: Manufacturer URL; ComponentLink1URL: http://www.ti.com/; ComponentLink2Description: Datasheet; ComponentLink2URL: http://www.ti.com/lit/ds/symlink/sn74lvc573a.pdf; ComponentLink3Description: Package Specification; ComponentLink3URL: http://www.ti.com/lit/ml/mpds362/mpds362.pdf
footprint PW0020A_N (SOP, 20-Leads, Body 6.6x4.5mm, Pitch 0.65mm, IPC Medium Density)
footprint PW0020A_M (SOP, 20-Leads, Body 6.6x4.5mm, Pitch 0.65mm, IPC Low Density)
footprint PW0020A_L (SOP, 20-Leads, Body 6.6x4.5mm, Pitch 0.65mm, IPC High Density)
pins: 1 ~{OE} (in), 2 1D (in), 3 2D (in), 4 3D (in), 5 4D (in), 6 5D (in), 7 6D (in), 8 7D (in), 9 8D (in), 10 GND (power), 11 LE (in), 12 8Q (hiz), 13 7Q (hiz), 14 6Q (hiz), 15 5Q (hiz), 16 4Q (hiz), 17 3Q (hiz), 18 2Q (hiz), 19 1Q (hiz), 20 VCC (power)

## SN74LVC573APWRG4
designator U?
Octal Transparent D-Type Latches With 3-State Outputs, PW0020A, LARGE T&R; Generic Part Number: SN74LVC573A; Manufacturer: Texas Instruments; PartNumber: SN74LVC573APWRG4; VCC(Min)(V): 1.65; VCC(Max)(V): 3.6; Output Type: CMOS; Logic: True; Static Current: 0.01; Input Type: CMOS,TTL; Bits(#): 8; F @ Nom Voltage(Max)(Mhz): 100; Rating: Catalog; Technology Family: LVC; Voltage(Nom)(V): 1.8,2.5,2.7,3.3; Schmitt Trigger: No; Output Drive (IOL/IOH)(Max)(mA): 24/-24; Output Logic: Non-inverted; 3-State Output: Yes; tpd @ Nom Voltage(Max)(ns): 19.1,9.6,7.7,6.9; DatasheetVersion: SCAS300S; PackageReference: PW0020A; Supplier 1: Digi-Key; Supplier Part Number 1: SN74LVC573APWRG4-ND; Supplier 2: Mouser; Supplier Part Number 2: 595-SN74LVC573APWRG4; ICC @ Nom Voltage(Max)(mA): 0.01; Operating Temperature Range(C): -40 to 125,-40 to 85; Code_JEDEC: MO-153; ComponentLink1Description: Manufacturer URL; ComponentLink1URL: http://www.ti.com/; ComponentLink2Description: Datasheet; ComponentLink2URL: http://www.ti.com/lit/ds/symlink/sn74lvc573a.pdf; ComponentLink3Description: Package Specification; ComponentLink3URL: http://www.ti.com/lit/ml/mpds362/mpds362.pdf
footprint PW0020A_N (SOP, 20-Leads, Body 6.6x4.5mm, Pitch 0.65mm, IPC Medium Density)
footprint PW0020A_M (SOP, 20-Leads, Body 6.6x4.5mm, Pitch 0.65mm, IPC Low Density)
footprint PW0020A_L (SOP, 20-Leads, Body 6.6x4.5mm, Pitch 0.65mm, IPC High Density)
pins: 1 ~{OE} (in), 2 1D (in), 3 2D (in), 4 3D (in), 5 4D (in), 6 5D (in), 7 6D (in), 8 7D (in), 9 8D (in), 10 GND (power), 11 LE (in), 12 8Q (hiz), 13 7Q (hiz), 14 6Q (hiz), 15 5Q (hiz), 16 4Q (hiz), 17 3Q (hiz), 18 2Q (hiz), 19 1Q (hiz), 20 VCC (power)

## SN74LVC573APWT
designator U?
Octal Transparent D-Type Latches With 3-State Outputs, PW0020A, SMALL T&R; Generic Part Number: SN74LVC573A; Manufacturer: Texas Instruments; PartNumber: SN74LVC573APWT; VCC(Min)(V): 1.65; VCC(Max)(V): 3.6; Output Type: CMOS; Logic: True; Static Current: 0.01; Input Type: CMOS,TTL; Bits(#): 8; F @ Nom Voltage(Max)(Mhz): 100; Rating: Catalog; Technology Family: LVC; Voltage(Nom)(V): 1.8,2.5,2.7,3.3; Schmitt Trigger: No; Output Drive (IOL/IOH)(Max)(mA): 24/-24; Output Logic: Non-inverted; 3-State Output: Yes; tpd @ Nom Voltage(Max)(ns): 19.1,9.6,7.7,6.9; DatasheetVersion: SCAS300S; PackageReference: PW0020A; Supplier 1: Digi-Key; Supplier Part Number 1: SN74LVC573APWT-ND; Supplier 2: Farnell; Supplier Part Number 2: 2406979; Supplier 3: Newark; Supplier Part Number 3: 82H5781; Supplier 4: Mouser; Supplier Part Number 4: 595-SN74LVC573APWT; ICC @ Nom Voltage(Max)(mA): 0.01; Operating Temperature Range(C): -40 to 125,-40 to 85; Code_JEDEC: MO-153; ComponentLink1Description: Manufacturer URL; ComponentLink1URL: http://www.ti.com/; ComponentLink2Description: Datasheet; ComponentLink2URL: http://www.ti.com/lit/ds/symlink/sn74lvc573a.pdf; ComponentLink3Description: Package Specification; ComponentLink3URL: http://www.ti.com/lit/ml/mpds362/mpds362.pdf
footprint PW0020A_N (SOP, 20-Leads, Body 6.6x4.5mm, Pitch 0.65mm, IPC Medium Density)
footprint PW0020A_M (SOP, 20-Leads, Body 6.6x4.5mm, Pitch 0.65mm, IPC Low Density)
footprint PW0020A_L (SOP, 20-Leads, Body 6.6x4.5mm, Pitch 0.65mm, IPC High Density)
pins: 1 ~{OE} (in), 2 1D (in), 3 2D (in), 4 3D (in), 5 4D (in), 6 5D (in), 7 6D (in), 8 7D (in), 9 8D (in), 10 GND (power), 11 LE (in), 12 8Q (hiz), 13 7Q (hiz), 14 6Q (hiz), 15 5Q (hiz), 16 4Q (hiz), 17 3Q (hiz), 18 2Q (hiz), 19 1Q (hiz), 20 VCC (power)

## SN74LVC573AQDWREP
designator U?
Enhanced Product Octal Transparent D-Type Latches With 3-State Outputs, DW0020A, LARGE T&R; Generic Part Number: SN74LVC573A-EP; Manufacturer: Texas Instruments; PartNumber: SN74LVC573AQDWREP; VCC(Min)(V): 2; VCC(Max)(V): 3.6; Output Type: CMOS; Logic: True; Static Current: 0.01; Input Type: CMOS,TTL; Bits(#): 8; F @ Nom Voltage(Max)(Mhz): 100; Rating: HiRel Enhanced Product; Technology Family: LVC; Voltage(Nom)(V): 2.7,3.3; Schmitt Trigger: No; Output Drive (IOL/IOH)(Max)(mA): 24/-24; Output Logic: Non-inverted; 3-State Output: Yes; tpd @ Nom Voltage(Max)(ns): 7.7,6.9; DatasheetVersion: SCAS749A; PackageReference: DW0020A; Supplier 1: Digi-Key; Supplier Part Number 1: 296-22374-2-ND; Supplier 2: Digi-Key; Supplier Part Number 2: 296-22374-1-ND; Supplier 3: Digi-Key; Supplier Part Number 3: 296-22374-6-ND; Supplier 4: Mouser; Supplier Part Number 4: 595-N74LVC573AQDWREP; ICC @ Nom Voltage(Max)(mA): 0.01; Operating Temperature Range(C): -40 to 125; Code_JEDEC: MS-013; ComponentLink1Description: Manufacturer URL; ComponentLink1URL: http://www.ti.com/; ComponentLink2Description: Datasheet; ComponentLink2URL: http://www.ti.com/lit/ds/symlink/sn74lvc573a-ep.pdf; ComponentLink3Description: Package Specification; ComponentLink3URL: http://www.ti.com/lit/ml/mpds173a/mpds173a.pdf
footprint DW0020A_N (SOIC, 20-Leads, Body 13x7.6mm, Pitch 1.27mm, IPC Medium Density)
footprint DW0020A_M (SOIC, 20-Leads, Body 13x7.6mm, Pitch 1.27mm, IPC Low Density)
footprint DW0020A_L (SOIC, 20-Leads, Body 13x7.6mm, Pitch 1.27mm, IPC High Density)
pins: 1 ~{OE} (in), 2 1D (in), 3 2D (in), 4 3D (in), 5 4D (in), 6 5D (in), 7 6D (in), 8 7D (in), 9 8D (in), 10 GND (power), 11 LE (in), 12 8Q (hiz), 13 7Q (hiz), 14 6Q (hiz), 15 5Q (hiz), 16 4Q (hiz), 17 3Q (hiz), 18 2Q (hiz), 19 1Q (hiz), 20 VCC (power)

## SN74LVC573AQDWRQ1
designator U?
Automotive Catalog Octal Transparent D-Type Latches With 3-State Outputs, DW0020A, LARGE T&R; Generic Part Number: SN74LVC573A-Q1; Manufacturer: Texas Instruments; PartNumber: SN74LVC573AQDWRQ1; VCC(Min)(V): 2; VCC(Max)(V): 3.6; Output Type: CMOS; Logic: True; Static Current: 0.01; Input Type: CMOS,TTL; Bits(#): 8; F @ Nom Voltage(Max)(Mhz): 100; Technology Family: LVC; Voltage(Nom)(V): 2.7,3.3; Schmitt Trigger: No; Output Drive (IOL/IOH)(Max)(mA): 24/-24; Output Logic: Non-inverted; 3-State Output: Yes; tpd @ Nom Voltage(Max)(ns): 7.7,6.9; DatasheetVersion: SCAS714B; PackageReference: DW0020A; Supplier 1: Digi-Key; Supplier Part Number 1: 296-31918-2-ND; Supplier 2: Digi-Key; Supplier Part Number 2: 296-31918-1-ND; Supplier 3: Digi-Key; Supplier Part Number 3: 296-31918-6-ND; Supplier 4: Mouser; Supplier Part Number 4: 595-74LVC573AQDWRQ1; ICC @ Nom Voltage(Max)(mA): 0.01; Operating Temperature Range(C): -40 to 125; Rating: Automotive; Code_JEDEC: MS-013; ComponentLink1Description: Manufacturer URL; ComponentLink1URL: http://www.ti.com/; ComponentLink2Description: Datasheet; ComponentLink2URL: http://www.ti.com/lit/ds/symlink/sn74lvc573a-q1.pdf; ComponentLink3Description: Package Specification; ComponentLink3URL: http://www.ti.com/lit/ml/mpds173a/mpds173a.pdf
footprint DW0020A_N (SOIC, 20-Leads, Body 13x7.6mm, Pitch 1.27mm, IPC Medium Density)
footprint DW0020A_M (SOIC, 20-Leads, Body 13x7.6mm, Pitch 1.27mm, IPC Low Density)
footprint DW0020A_L (SOIC, 20-Leads, Body 13x7.6mm, Pitch 1.27mm, IPC High Density)
pins: 1 ~{OE} (in), 2 1D (in), 3 2D (in), 4 3D (in), 5 4D (in), 6 5D (in), 7 6D (in), 8 7D (in), 9 8D (in), 10 GND (power), 11 LE (in), 12 8Q (hiz), 13 7Q (hiz), 14 6Q (hiz), 15 5Q (hiz), 16 4Q (hiz), 17 3Q (hiz), 18 2Q (hiz), 19 1Q (hiz), 20 VCC (power)

## SN74LVC573AQPWREP
designator U?
Enhanced Product Octal Transparent D-Type Latches With 3-State Outputs, PW0020A, LARGE T&R; Generic Part Number: SN74LVC573A-EP; Manufacturer: Texas Instruments; PartNumber: SN74LVC573AQPWREP; VCC(Min)(V): 2; VCC(Max)(V): 3.6; Output Type: CMOS; Logic: True; Static Current: 0.01; Input Type: CMOS,TTL; Bits(#): 8; F @ Nom Voltage(Max)(Mhz): 100; Rating: HiRel Enhanced Product; Technology Family: LVC; Voltage(Nom)(V): 2.7,3.3; Schmitt Trigger: No; Output Drive (IOL/IOH)(Max)(mA): 24/-24; Output Logic: Non-inverted; 3-State Output: Yes; tpd @ Nom Voltage(Max)(ns): 7.7,6.9; DatasheetVersion: SCAS749A; PackageReference: PW0020A; Supplier 1: Digi-Key; Supplier Part Number 1: 296-22375-2-ND; Supplier 2: Digi-Key; Supplier Part Number 2: 296-22375-1-ND; Supplier 3: Digi-Key; Supplier Part Number 3: 296-22375-6-ND; Supplier 4: Mouser; Supplier Part Number 4: 595-N74LVC573AQPWREP; ICC @ Nom Voltage(Max)(mA): 0.01; Operating Temperature Range(C): -40 to 125; Code_JEDEC: MO-153; ComponentLink1Description: Manufacturer URL; ComponentLink1URL: http://www.ti.com/; ComponentLink2Description: Datasheet; ComponentLink2URL: http://www.ti.com/lit/ds/symlink/sn74lvc573a-ep.pdf; ComponentLink3Description: Package Specification; ComponentLink3URL: http://www.ti.com/lit/ml/mpds362/mpds362.pdf
footprint PW0020A_N (SOP, 20-Leads, Body 6.6x4.5mm, Pitch 0.65mm, IPC Medium Density)
footprint PW0020A_M (SOP, 20-Leads, Body 6.6x4.5mm, Pitch 0.65mm, IPC Low Density)
footprint PW0020A_L (SOP, 20-Leads, Body 6.6x4.5mm, Pitch 0.65mm, IPC High Density)
pins: 1 ~{OE} (in), 2 1D (in), 3 2D (in), 4 3D (in), 5 4D (in), 6 5D (in), 7 6D (in), 8 7D (in), 9 8D (in), 10 GND (power), 11 LE (in), 12 8Q (hiz), 13 7Q (hiz), 14 6Q (hiz), 15 5Q (hiz), 16 4Q (hiz), 17 3Q (hiz), 18 2Q (hiz), 19 1Q (hiz), 20 VCC (power)

## SN74LVC573AQPWRQ1
designator U?
Automotive Catalog Octal Transparent D-Type Latches With 3-State Outputs, PW0020A, LARGE T&R; Generic Part Number: SN74LVC573A-Q1; Manufacturer: Texas Instruments; PartNumber: SN74LVC573AQPWRQ1; VCC(Min)(V): 2; VCC(Max)(V): 3.6; Output Type: CMOS; Logic: True; Static Current: 0.01; Input Type: CMOS,TTL; Bits(#): 8; F @ Nom Voltage(Max)(Mhz): 100; Technology Family: LVC; Voltage(Nom)(V): 2.7,3.3; Schmitt Trigger: No; Output Drive (IOL/IOH)(Max)(mA): 24/-24; Output Logic: Non-inverted; 3-State Output: Yes; tpd @ Nom Voltage(Max)(ns): 7.7,6.9; DatasheetVersion: SCAS714B; PackageReference: PW0020A; Supplier 1: Digi-Key; Supplier Part Number 1: 296-31919-2-ND; Supplier 2: Digi-Key; Supplier Part Number 2: 296-31919-1-ND; Supplier 3: Digi-Key; Supplier Part Number 3: 296-31919-6-ND; Supplier 4: Mouser; Supplier Part Number 4: 595-74LVC573AQPWRQ1; ICC @ Nom Voltage(Max)(mA): 0.01; Operating Temperature Range(C): -40 to 125; Rating: Automotive; Code_JEDEC: MO-153; ComponentLink1Description: Manufacturer URL; ComponentLink1URL: http://www.ti.com/; ComponentLink2Description: Datasheet; ComponentLink2URL: http://www.ti.com/lit/ds/symlink/sn74lvc573a-q1.pdf; ComponentLink3Description: Package Specification; ComponentLink3URL: http://www.ti.com/lit/ml/mpds362/mpds362.pdf
footprint PW0020A_N (SOP, 20-Leads, Body 6.6x4.5mm, Pitch 0.65mm, IPC Medium Density)
footprint PW0020A_M (SOP, 20-Leads, Body 6.6x4.5mm, Pitch 0.65mm, IPC Low Density)
footprint PW0020A_L (SOP, 20-Leads, Body 6.6x4.5mm, Pitch 0.65mm, IPC High Density)
pins: 1 ~{OE} (in), 2 1D (in), 3 2D (in), 4 3D (in), 5 4D (in), 6 5D (in), 7 6D (in), 8 7D (in), 9 8D (in), 10 GND (power), 11 LE (in), 12 8Q (hiz), 13 7Q (hiz), 14 6Q (hiz), 15 5Q (hiz), 16 4Q (hiz), 17 3Q (hiz), 18 2Q (hiz), 19 1Q (hiz), 20 VCC (power)

## SN74LVC573ARGYR
designator U?
Octal Transparent D-Type Latches With 3-State Outputs, RGY0020A, LARGE T&R; Generic Part Number: SN74LVC573A; Manufacturer: Texas Instruments; PartNumber: SN74LVC573ARGYR; VCC(Min)(V): 1.65; VCC(Max)(V): 3.6; Output Type: CMOS; Logic: True; Static Current: 0.01; Input Type: CMOS,TTL; Bits(#): 8; F @ Nom Voltage(Max)(Mhz): 100; Rating: Catalog; Technology Family: LVC; Voltage(Nom)(V): 1.8,2.5,2.7,3.3; Schmitt Trigger: No; Output Drive (IOL/IOH)(Max)(mA): 24/-24; Output Logic: Non-inverted; 3-State Output: Yes; tpd @ Nom Voltage(Max)(ns): 19.1,9.6,7.7,6.9; DatasheetVersion: SCAS300S; PackageReference: RGY0020A; Supplier 1: Digi-Key; Supplier Part Number 1: 296-13975-2-ND; Supplier 2: Digi-Key; Supplier Part Number 2: 296-13975-1-ND; Supplier 3: Digi-Key; Supplier Part Number 3: 296-13975-6-ND; Supplier 4: Mouser; Supplier Part Number 4: 595-SN74LVC573ARGYR; ICC @ Nom Voltage(Max)(mA): 0.01; Operating Temperature Range(C): -40 to 125,-40 to 85; Code_JEDEC: MO-241; ComponentLink1Description: Manufacturer URL; ComponentLink1URL: http://www.ti.com/; ComponentLink2Description: Datasheet; ComponentLink2URL: http://www.ti.com/lit/ds/symlink/sn74lvc573a.pdf; ComponentLink3Description: Package Specification; ComponentLink3URL: http://www.ti.com/lit/ml/mpqf116g/mpqf116g.pdf
footprint RGY0020A_V (QFN, 20-Leads, Body 4.5x3.5mm, Thermal Pad 3.05x2.05mm, TI Recommend)
pins: 1 ~{OE} (in), 2 1D (in), 3 2D (in), 4 3D (in), 5 4D (in), 6 5D (in), 7 6D (in), 8 7D (in), 9 8D (in), 10 GND (power), 11 LE (in), 12 8Q (hiz), 13 7Q (hiz), 14 6Q (hiz), 15 5Q (hiz), 16 4Q (hiz), 17 3Q (hiz), 18 2Q (hiz), 19 1Q (hiz), 20 VCC (power), 21 EP

## SN74LVC573AZQNR
designator U?
Octal Transparent D-Type Latches With 3-State Outputs, ZQN0020A, LARGE T&R; Generic Part Number: SN74LVC573A; Manufacturer: Texas Instruments; PartNumber: SN74LVC573AZQNR; VCC(Min)(V): 1.65; VCC(Max)(V): 3.6; Output Type: CMOS; Logic: True; Static Current: 0.01; Input Type: CMOS,TTL; Bits(#): 8; F @ Nom Voltage(Max)(Mhz): 100; Rating: Catalog; Technology Family: LVC; Voltage(Nom)(V): 1.8,2.5,2.7,3.3; Schmitt Trigger: No; Output Drive (IOL/IOH)(Max)(mA): 24/-24; Output Logic: Non-inverted; 3-State Output: Yes; tpd @ Nom Voltage(Max)(ns): 19.1,9.6,7.7,6.9; DatasheetVersion: SCAS300S; PackageReference: ZQN0020A; Supplier 1: Digi-Key; Supplier Part Number 1: 296-31920-2-ND; Supplier 2: Digi-Key; Supplier Part Number 2: 296-31920-1-ND; Supplier 3: Digi-Key; Supplier Part Number 3: 296-31920-6-ND; Supplier 4: Newark; Supplier Part Number 4: 87H2694; Supplier 5: Mouser; Supplier Part Number 5: 595-SN74LVC573AZQNR; ICC @ Nom Voltage(Max)(mA): 0.01; Operating Temperature Range(C): -40 to 125,-40 to 85; Code_JEDEC: MO-285; ComponentLink1Description: Manufacturer URL; ComponentLink1URL: http://www.ti.com/; ComponentLink2Description: Datasheet; ComponentLink2URL: http://www.ti.com/lit/ds/symlink/sn74lvc573a.pdf; ComponentLink3Description: Package Specification; ComponentLink3URL: http://www.ti.com/lit/ml/mpbg297b/mpbg297b.pdf
footprint ZQN0020A (BGA, 20-Balls, Body 4x3mm, Pitch 0.65mm)
pins: A1 1D (in) "Input 1", A2 ~{OE} (in) "Enable Pin", A3 VCC (power) "Power Pin", A4 1Q (hiz) "Output 1", B1 3D (in) "Input 3", B2 3Q (hiz) "Output 3", B3 2D (in) "Input 2", B4 2Q (hiz) "Output 2", C1 5D (in) "Input 5", C2 4D (in) "Input 4", C3 5Q (hiz) "Output 5", C4 4Q (hiz) "Output 4", D1 7D (in) "Input 7", D2 7Q (hiz) "Output 7", D3 6D (in) "Input 6", D4 6Q (hiz) "Output 6", E1 GND (power) "Ground", E2 8D (in) "Input 8", E3 LE (in) "Latch Enable", E4 8Q (hiz) "Output 8"

## SN74LVC574ADBR
designator U?
Octal Edge-Triggered D-Type Flip-Flop With 3-State Outputs, DB0020A, LARGE T&R; Generic Part Number: SN74LVC574A; Manufacturer: Texas Instruments; PartNumber: SN74LVC574ADBR; VCC(Min)(V): 1.65; VCC(Max)(V): 3.6; Output Type: CMOS; ICC @ Nom Voltage(Max)(mA): 0.01; Input Type: TTL,CMOS; Bits(#): 8; F @ Nom Voltage(Max)(Mhz): 100; Rating: Catalog; Technology Family: LVC; Voltage(Nom)(V): 1.8,2.5,2.7,3.3; Schmitt Trigger: No; Output Drive (IOL/IOH)(Max)(mA): 24/-24; Output Logic: Non-inverted; 3-State Output: Yes; tpd @ Nom Voltage(Max)(ns): 21.5,10,7.8,8.8; DatasheetVersion: SCAS301R; PackageReference: DB0020A; Supplier 1: Digi-Key; Supplier Part Number 1: 296-8530-2-ND; Supplier 2: Digi-Key; Supplier Part Number 2: 296-8530-1-ND; Supplier 3: Digi-Key; Supplier Part Number 3: 296-8530-6-ND; Supplier 4: Newark; Supplier Part Number 4: 76C4314; Supplier 5: Mouser; Supplier Part Number 5: 595-SN74LVC574ADBR; Operating Temperature Range(C): -40 to 125,-40 to 85,-55 to 125; Code_JEDEC: MO-150; ComponentLink1Description: Manufacturer URL; ComponentLink1URL: http://www.ti.com/; ComponentLink2Description: Datasheet; ComponentLink2URL: http://www.ti.com/lit/ds/symlink/sn74lvc574a.pdf; ComponentLink3Description: Package Specification; ComponentLink3URL: http://www.ti.com/lit/ml/mpds508/mpds508.pdf
footprint DB0020A_N (SOP, 20-Leads, Body 5.6x7.5mm, Pitch 0.65mm, IPC Medium Density)
footprint DB0020A_M (SOP, 20-Leads, Body 5.6x7.5mm, Pitch 0.65mm, IPC Low Density)
footprint DB0020A_L (SOP, 20-Leads, Body 5.6x7.5mm, Pitch 0.65mm, IPC High Density)
part A pins: 1 OE (in), 2 1D (in), 3 2D (in), 4 3D (in), 5 4D (in), 6 5D (in), 7 6D (in), 8 7D (in), 9 8D (in), 11 CLK (in), 12 8Q (hiz), 13 7Q (hiz), 14 6Q (hiz), 15 5Q (hiz), 16 4Q (hiz), 17 3Q (hiz), 18 2Q (hiz), 19 1Q (hiz)
part B pins: 10 GND (power), 20 VCC (power)

## SN74LVC574ADGVR
designator U?
Octal Edge-Triggered D-Type Flip-Flop With 3-State Outputs, DGV0020A, LARGE T&R; Generic Part Number: SN74LVC574A; Manufacturer: Texas Instruments; PartNumber: SN74LVC574ADGVR; VCC(Min)(V): 1.65; VCC(Max)(V): 3.6; Output Type: CMOS; ICC @ Nom Voltage(Max)(mA): 0.01; Input Type: TTL,CMOS; Bits(#): 8; F @ Nom Voltage(Max)(Mhz): 100; Rating: Catalog; Technology Family: LVC; Voltage(Nom)(V): 1.8,2.5,2.7,3.3; Schmitt Trigger: No; Output Drive (IOL/IOH)(Max)(mA): 24/-24; Output Logic: Non-inverted; 3-State Output: Yes; tpd @ Nom Voltage(Max)(ns): 21.5,10,7.8,8.8; DatasheetVersion: SCAS301R; PackageReference: DGV0020A; Supplier 1: Digi-Key; Supplier Part Number 1: 296-12475-2-ND; Supplier 2: Digi-Key; Supplier Part Number 2: 296-12475-1-ND; Supplier 3: Digi-Key; Supplier Part Number 3: 296-12475-6-ND; Supplier 4: Mouser; Supplier Part Number 4: 595-SN74LVC574ADGVR; Operating Temperature Range(C): -40 to 125,-40 to 85,-55 to 125; Code_JEDEC: MO-194; ComponentLink1Description: Manufacturer URL; ComponentLink1URL: http://www.ti.com/; ComponentLink2Description: Datasheet; ComponentLink2URL: http://www.ti.com/lit/ds/symlink/sn74lvc574a.pdf; ComponentLink3Description: Package Specification; ComponentLink3URL: http://www.ti.com/lit/ml/mpds006c/mpds006c.pdf
footprint DGV0020A_N (SOP, 20-Leads, Body 4.5x5.1mm, Pitch 0.4mm, IPC Medium Density)
footprint DGV0020A_M (SOP, 20-Leads, Body 4.5x5.1mm, Pitch 0.4mm, IPC Low Density)
footprint DGV0020A_L (SOP, 20-Leads, Body 4.5x5.1mm, Pitch 0.4mm, IPC High Density)
part A pins: 1 OE (in), 2 1D (in), 3 2D (in), 4 3D (in), 5 4D (in), 6 5D (in), 7 6D (in), 8 7D (in), 9 8D (in), 11 CLK (in), 12 8Q (hiz), 13 7Q (hiz), 14 6Q (hiz), 15 5Q (hiz), 16 4Q (hiz), 17 3Q (hiz), 18 2Q (hiz), 19 1Q (hiz)
part B pins: 10 GND (power), 20 VCC (power)

## SN74LVC574ADW
designator U?
Octal Edge-Triggered D-Type Flip-Flop With 3-State Outputs, DW0020A, TUBE; Generic Part Number: SN74LVC574A; Manufacturer: Texas Instruments; PartNumber: SN74LVC574ADW; VCC(Min)(V): 1.65; VCC(Max)(V): 3.6; Output Type: CMOS; ICC @ Nom Voltage(Max)(mA): 0.01; Input Type: TTL,CMOS; Bits(#): 8; F @ Nom Voltage(Max)(Mhz): 100; Rating: Catalog; Technology Family: LVC; Voltage(Nom)(V): 1.8,2.5,2.7,3.3; Schmitt Trigger: No; Output Drive (IOL/IOH)(Max)(mA): 24/-24; Output Logic: Non-inverted; 3-State Output: Yes; tpd @ Nom Voltage(Max)(ns): 21.5,10,7.8,8.8; DatasheetVersion: SCAS301R; PackageReference: DW0020A; Supplier 1: Digi-Key; Supplier Part Number 1: 296-8531-5-ND; Supplier 2: Newark; Supplier Part Number 2: 35K0823; Supplier 3: Mouser; Supplier Part Number 3: 595-SN74LVC574ADW; Operating Temperature Range(C): -40 to 125,-40 to 85,-55 to 125; Code_JEDEC: MS-013; ComponentLink1Description: Manufacturer URL; ComponentLink1URL: http://www.ti.com/; ComponentLink2Description: Datasheet; ComponentLink2URL: http://www.ti.com/lit/ds/symlink/sn74lvc574a.pdf; ComponentLink3Description: Package Specification; ComponentLink3URL: http://www.ti.com/lit/ml/mpds173a/mpds173a.pdf
footprint DW0020A_N (SOIC, 20-Leads, Body 13x7.6mm, Pitch 1.27mm, IPC Medium Density)
footprint DW0020A_M (SOIC, 20-Leads, Body 13x7.6mm, Pitch 1.27mm, IPC Low Density)
footprint DW0020A_L (SOIC, 20-Leads, Body 13x7.6mm, Pitch 1.27mm, IPC High Density)
part A pins: 1 OE (in), 2 1D (in), 3 2D (in), 4 3D (in), 5 4D (in), 6 5D (in), 7 6D (in), 8 7D (in), 9 8D (in), 11 CLK (in), 12 8Q (hiz), 13 7Q (hiz), 14 6Q (hiz), 15 5Q (hiz), 16 4Q (hiz), 17 3Q (hiz), 18 2Q (hiz), 19 1Q (hiz)
part B pins: 10 GND (power), 20 VCC (power)